# EAGLE library part PIC12F1822 (library eagle-library-edeca.net-v5)
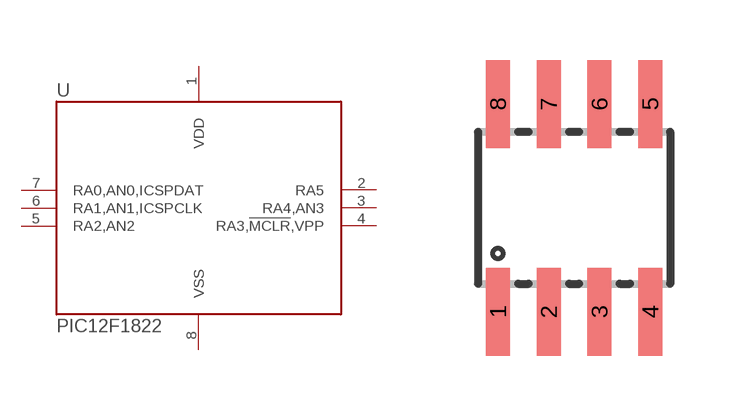
[diagram p12: symbol with the pads of SO-08; footprint SO-08]

Designator prefix -

## PIC12F1822SN  [SO-08]
1  VDD  pwr
2  RA5
3  RA4,AN3
4  RA3,!MCLR,VPP  in
5  RA2,AN2
6  RA1,AN1,ICSPCLK
7  RA0,AN0,ICSPDAT
8  VSS  pwr

## Footprint SO-08 (pad centres in mm)
Small Outline Narrow Plastic Gull Wing 150-mil body, package type SN (From microchip.lbr)
smd 0.6 x 2.2: 1 -1.905,-2.6; 2 -0.635,-2.6; 3 0.635,-2.6; 4 1.905,-2.6; 5 1.905,2.6; 6 0.635,2.6; 7 -0.635,2.6; 8 -1.905,2.6